# EAGLE library part SC16IS762IPW,112 (library Deegou_IC)
IC, NXP, SC16IS762IPW Source: Datasheet <https://componentsearchengine.com/Datasheets/2/SC16IS762IPW,112.pdf>
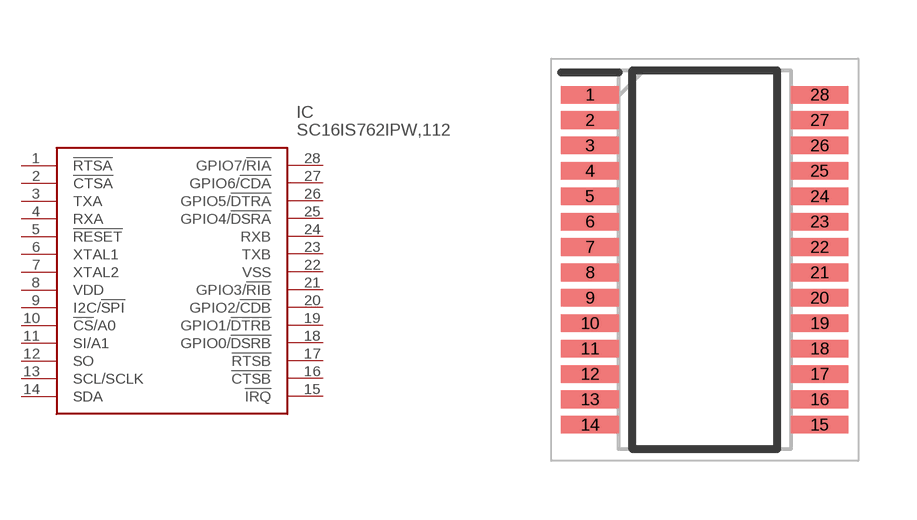
[diagram p60: symbol with the pads of SOP65P640X110-28N; footprint SOP65P640X110-28N]

Designator prefix IC

## SC16IS762IPW,112 (DESCRIPTION: IC, NXP, SC16IS762IPW; HEIGHT: 1.1mm; MANUFACTURER_NAME: NXP; MANUFACTURER_PART_NUMBER: SC16IS762IPW,112; MOUSER_PART_NUMBER: 771-SC16IS762IPW112; RS_PART_NUMBER: 8160239P; RS_PRICE-STOCK: http://uk.rs-online.com/web/p/products/8160239P)  [SOP65P640X110-28N]
1  !RTSA
2  !CTSA
3  TXA
4  RXA
5  !RESET
6  XTAL1
7  XTAL2
8  VDD
9  I2C/!SPI
10  !CS!/A0
11  SI/A1
12  SO
13  SCL/SCLK
14  SDA
15  !IRQ
16  !CTSB
17  !RTSB
18  GPIO0/!DSRB
19  GPIO1/!DTRB
20  GPIO2/!CDB
21  GPIO3/!RIB
22  VSS
23  TXB
24  RXB
25  GPIO4/!DSRA
26  GPIO5/!DTRA
27  GPIO6/!CDA
28  GPIO7/!RIA

## Footprint SOP65P640X110-28N (pad centres in mm)
SC16IS762IPW,112
smd 1.475 x 0.45: 1 -2.938,4.225; 2 -2.938,3.575; 3 -2.938,2.925; 4 -2.938,2.275; 5 -2.938,1.625; 6 -2.938,0.975; 7 -2.938,0.325; 8 -2.938,-0.325; 9 -2.938,-0.975; 10 -2.938,-1.625; 11 -2.938,-2.275; 12 -2.938,-2.925; 13 -2.938,-3.575; 14 -2.938,-4.225; 15 2.938,-4.225; 16 2.938,-3.575; 17 2.938,-2.925; 18 2.938,-2.275; 19 2.938,-1.625; 20 2.938,-0.975; 21 2.938,-0.325; 22 2.938,0.325; 23 2.938,0.975; 24 2.938,1.625; 25 2.938,2.275; 26 2.938,2.925; 27 2.938,3.575; 28 2.938,4.225